# EAGLE library part XFMR_DA143 (library wheat)
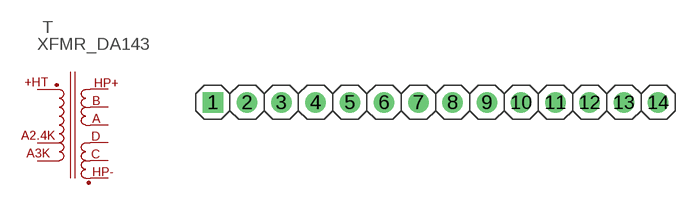
[diagram p224: symbol with the pads of HDR14X1; footprint HDR14X1]

Designator prefix T

## XFMR_DA143  [HDR14X1]
1  P1  pas
2  P2  pas
3  P3  pas
4  S1  pas
5  S2  pas
6  S3  pas
7  S4  pas
8  S11  pas
9  S12  pas

## Footprint HDR14X1 (pad centres in mm)
HEADER 14X1
drill 1.016 square: 1 0,0
drill 1.016: 2 2.54,0; 3 5.08,0; 4 7.62,0; 5 10.16,0; 6 12.7,0; 7 15.24,0; 8 17.78,0; 9 20.32,0; 10 22.86,0; 11 25.4,0; 12 27.94,0; 13 30.48,0; 14 33.02,0